# Altium footprint library IM_v1.0.PcbLib: 78 footprints (part 2 of 5)
Each footprint in its own frame and in the unit in brackets; x right, y up, seen from the top. Pads: shape width x height; smd on the part's side, far side on the other; paste and mask are expansions set on the pad; w line width, h text height; cw(c..) or ccw(c..) is an arc to the next point about the centre after c.
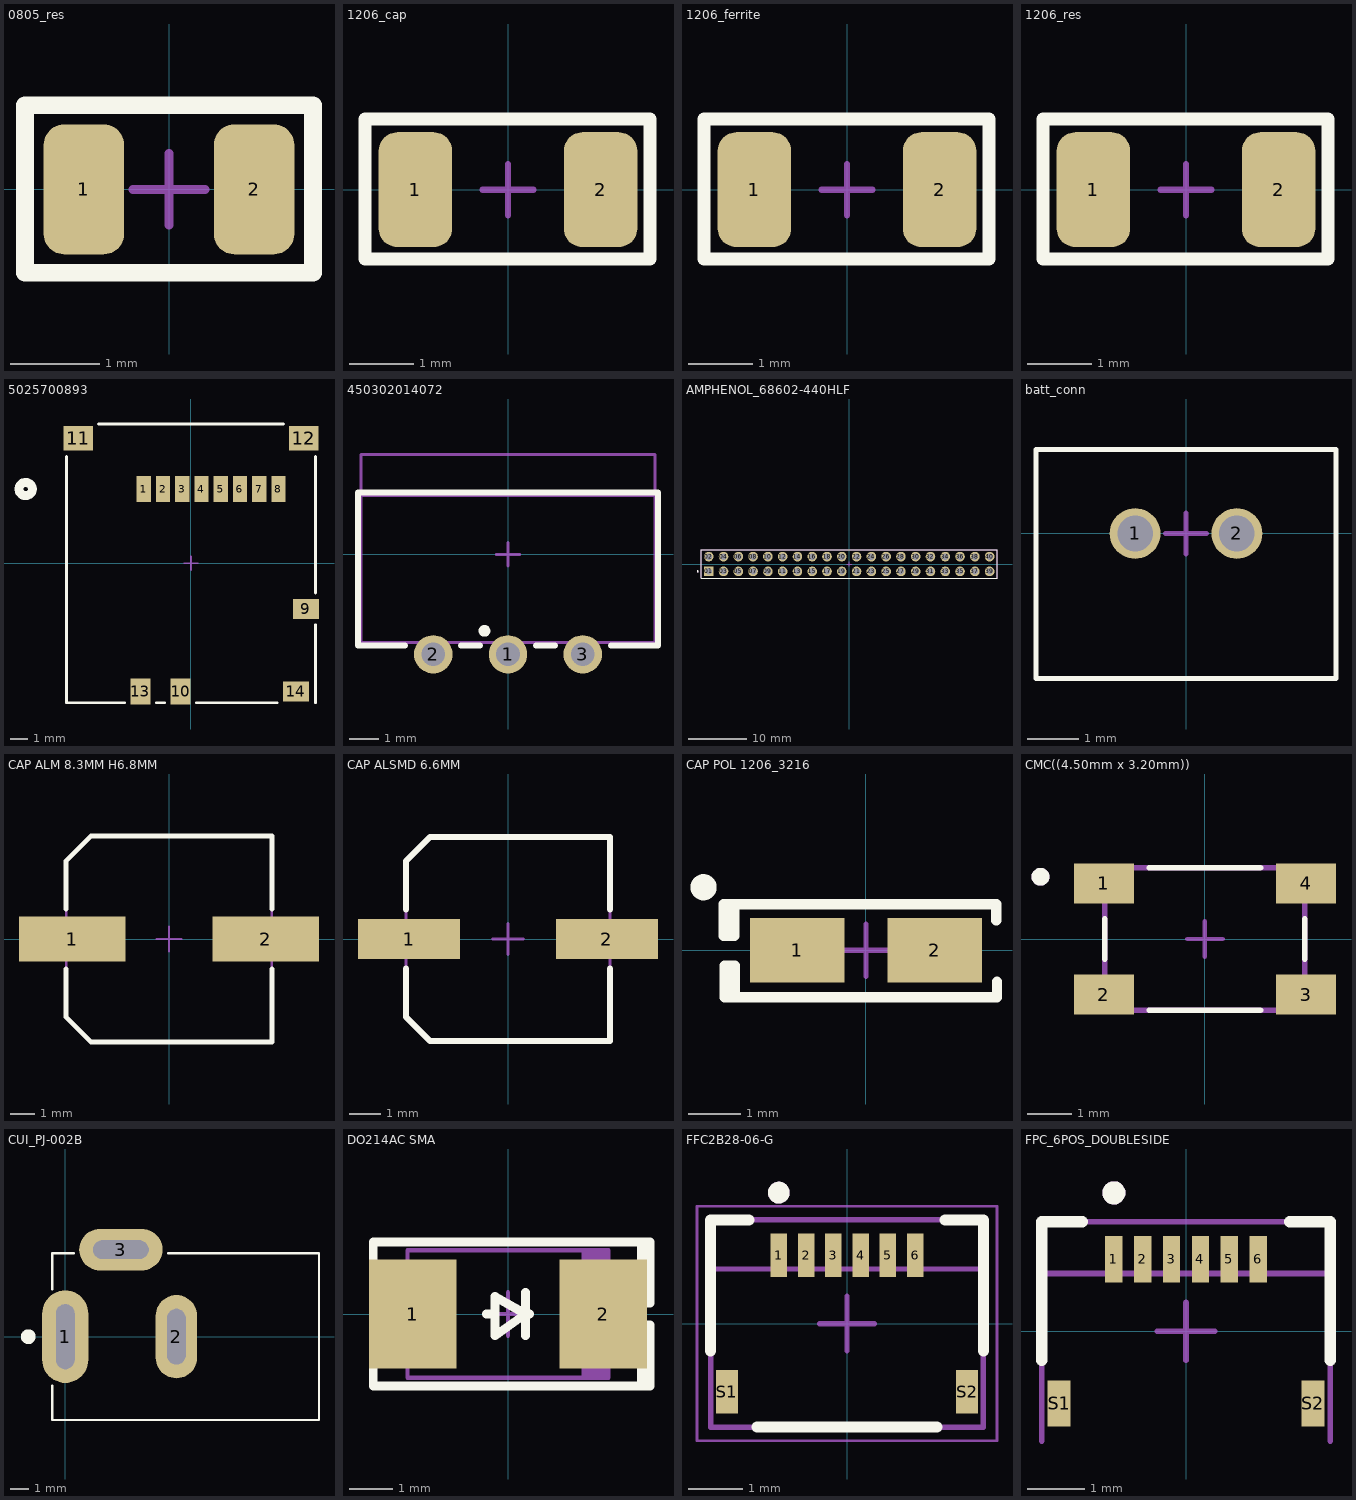
[diagram p1: the footprints below, top view; thin cyan lines are the x and y axes]

## 0805_res [mm]
pads (2):
  rrect50% 0.9x1.45 smd: 1(-0.95,0) 2(0.95,0)
Top Overlay:
  lines w0.2: -1.607,-0.932 -1.607,0.94 1.608,0.94 1.608,-0.932 -1.607,-0.932
Mechanical 7:
  lines w0.1: -0.4,0 0,0 ; 0,-0.4 0,0 ; 0.4,0 0,0 ; 0,0 0,0.4 0,0
3D body "RES 0805.STEP": height 0.6, standoff 0, extent -1,-0.625 1,0.625

## 1206_cap [mm]
pads (2):
  rrect50% 1.15x1.8 smd: 1(-1.45,0) 2(1.45,0)
Top Overlay:
  lines w0.2: -2.24,-1.084 -2.24,1.105 2.225,1.105 2.225,-1.084 -2.24,-1.084
Mechanical 7:
  lines w0.1: -0.4,0 0,0 ; 0,-0.4 0,0 ; 0.4,0 0,0 ; 0,0 0,0.4 0,0
3D body "CAP 1206.STEP": height 1.62, standoff 0, extent -1.6,-0.812 1.6,0.812

## 1206_ferrite [mm]
pads (2):
  rrect50% 1.15x1.8 smd: 1(-1.45,0) 2(1.45,0)
Top Overlay:
  lines w0.2: -2.24,-1.084 2.225,-1.084 2.225,1.105 -2.24,1.105 -2.24,-1.084
Mechanical 7:
  lines w0.1: -0.4,0 0,0 ; 0,-0.4 0,0 ; 0.4,0 0,0 ; 0,0 0,0.4 0,0
3D body "FER 1206.step": height 1.3, standoff 0, extent -1.65,-0.85 1.65,0.85

## 1206_res [mm]
pads (2):
  rrect50% 1.15x1.8 smd: 1(-1.45,0) 2(1.45,0)
Top Overlay:
  lines w0.2: -2.24,-1.084 2.225,-1.084 2.225,1.105 -2.24,1.105 -2.24,-1.084
Mechanical 7:
  lines w0.1: -0.4,0 0,0 ; 0,-0.4 0,0 ; 0.4,0 0,0 ; 0,0 0,0.4 0,0
3D body "RES 1206.STEP": height 0.6, standoff 0, extent -1.6,-0.8 1.6,0.8

## 5025700893 [mil]
pads (14):
  rect 32x59 smd paste+0 mask+0: 1(-106.3,167.27) 2(-62.99,167.27) 3(-19.68,167.27) 4(23.62,167.27) 5(66.93,167.27) 6(110.24,167.27) 7(153.54,167.27) 8(196.85,167.27)
  rect 59x45 smd paste+0 mask+0: 9(258.86,-102.42) 14(236.22,-288.44)
  rect 45x59 smd paste+0 mask+0: 10(-23.62,-288.44) 13(-114.17,-288.44)
  rect 67x55 smd paste+0 mask+0: 11(-253.94,281.44) 12(253.94,281.44)
Top Overlay:
  circle w20: c-372.44,167.27 r15
  lines w6: -280.5,240.84 -280.5,-314 -149.77,-314 ; -208.35,314 208.35,314 ; -78.57,-314 -59.22,-314 ; 11.98,-314 193.98,-314 ; 280.5,-314 280.5,-138.02 ; 280.5,-66.82 280.5,240.84
Bottom Overlay:
  circle w20: c-372.44,167.27 r15
Mechanical 7:
  lines w3.94: -15.75,0 0,0 ; 0,-15.75 0,0 ; 0,15.75 0,0 ; 15.75,0 0,0
3D body "5025700893.stp": height 74.8, standoff 3.94, extent -271.65,-305.12 271.65,305.12

## 450302014072 [mm]
pads (3):
  round 1.308 hole 0.8: 1(0,-3.4) 2(-2.54,-3.4) 3(2.54,-3.4)
Top Overlay:
  circle w0.2: c-0.8,-2.6 r0.1
  lines w0.2: -3.5,-3.1 -5.1,-3.1 -5.1,2.1 5.1,2.1 5.1,-3.1 3.5,-3.1 ; -1.6,-3.1 -0.95,-3.1 ; 0.95,-3.1 1.6,-3.1
Mechanical 13:
  lines w0.1: -5,2 5,2 ; -5,2 -5,3.4 5,3.4 5,2 ; -5,2 -5,-3 5,-3 5,2
  text "PCB Edge" at -1.4,1.3 h0.41
  text "Switch Edge" at -1.5,2.8 h0.41
Mechanical 7:
  lines w0.1: -0.4,0 0,0 ; 0,-0.4 0,0 ; 0,0.4 0,0 ; 0.4,0 0,0
3D body "450302014072+%28rev1%29.stp": height 2.5, standoff -3.7, extent -5,-3.748 5,3.352

## AMPHENOL_68602-440HLF [mm]
pads (40):
  rect 1.65x1.65 / inner round 1.65 / far side rect 1.65x1.65 hole 1.1: 01(-24.13,-1.27)
  round 1.65 hole 1.1: 02(-24.13,1.27) 03(-21.59,-1.27) 04(-21.59,1.27) 05(-19.05,-1.27) 06(-19.05,1.27) 07(-16.51,-1.27) 08(-16.51,1.27) 09(-13.97,-1.27) 10(-13.97,1.27) 11(-11.43,-1.27) 12(-11.43,1.27) 13(-8.89,-1.27) 14(-8.89,1.27) 15(-6.35,-1.27) 16(-6.35,1.27) 17(-3.81,-1.27) 18(-3.81,1.27) 19(-1.27,-1.27) 20(-1.27,1.27) 21(1.27,-1.27) 22(1.27,1.27) 23(3.81,-1.27) 24(3.81,1.27) 25(6.35,-1.27) 26(6.35,1.27) 27(8.89,-1.27) 28(8.89,1.27) 29(11.43,-1.27) 30(11.43,1.27) 31(13.97,-1.27) 32(13.97,1.27) 33(16.51,-1.27) 34(16.51,1.27) 35(19.05,-1.27) 36(19.05,1.27) 37(21.59,-1.27) 38(21.59,1.27) 39(24.13,-1.27) 40(24.13,1.27)
Top Overlay:
  circle w0.2: c-26.05,-1.27 r0.1
  lines w0.127: -25.4,-2.415 -25.4,2.415 25.4,2.415 25.4,-2.415 -25.4,-2.415
Route Tool Path (Mech13):
  circle w0.2: c-26.05,-1.27 r0.1
  lines w0.127: -25.4,-2.415 -25.4,2.415 ; -25.4,-2.415 25.4,-2.415 ; -25.4,-2.415 -25.4,2.415 ; -25.4,2.415 25.4,2.415 ; 25.4,-2.415 25.4,2.415 ; 25.4,-2.415 25.4,2.415
Mechanical 7:
  lines w0.1: -0.4,0 0,0 ; 0,-0.4 0,0 ; 0,0.4 0,0 ; 0.4,0 0,0
3D body "68602-440HLF.STEP": height 8.38, standoff -3.81, extent -25.4,-2.415 25.4,2.415

## batt_conn [mm]
pads (2):
  round 1 hole 0.7: 1(-1,0) 2(1,0)
Top Overlay:
  lines w0.1: -2.95,-2.85 -2.95,1.65 2.95,1.65 2.95,-2.85 -2.95,-2.85
Mechanical 7:
  lines w0.1: -0.4,0 0,0 ; 0,-0.4 0,0 ; 0,0.4 0,0 ; 0.4,0 0,0
3D body "B2B-PH-K-S.STEP": height 6, standoff -3.4, extent -2.95,-2.85 2.95,1.65

## CAP ALM 8.3MM H6.8MM [mm]
height 0.9
pads (2):
  rect 4.3x1.8 smd: 1(-3.9,0) 2(3.9,0)
Top Overlay:
  lines w0.2: -4.15,-1.2 -4.15,-3.15 -3.15,-4.15 4.15,-4.15 4.15,-1.2 ; -4.15,1.2 -4.15,3.15 -3.15,4.15 4.15,4.15 4.15,1.2
Route Tool Path (Mech13):
  lines w0.1: -4.15,-3.15 -3.15,-4.15 4.15,-4.15 4.15,4.15 -3.15,4.15 -4.15,3.15 -4.15,-3.15
Mechanical 7:
  lines w0.1: -0.5,0 0.5,0 ; 0,-0.5 0,0.5
3D body ".STEP": height 6.8, standoff 0, extent -5,-4.15 5,4.15

## CAP ALSMD 6.6MM [mm] "Aluminum SMD Electrolytic Capacitor, 6.60mm Land Size, 6.30mm Diameter, 5.65mm Height, 8.00mm Maximum Leads Span"
height 0.65
pads (2):
  rect 3.3x1.3 smd: 1(-3.2,0) 2(3.2,0)
Top Overlay:
  lines w0.2: -3.3,-0.95 -3.3,-2.512 -2.512,-3.3 3.3,-3.3 3.3,-0.95 ; -3.3,0.95 -3.3,2.512 -2.512,3.3 3.3,3.3 3.3,0.95
Mechanical 13:
  lines w0.1: -3.3,-2.512 -3.3,2.512 -2.512,3.3 3.3,3.3 3.3,-3.3 -2.512,-3.3 -3.3,-2.512
Mechanical 7:
  lines w0.1: -0.5,0 0.5,0 ; 0,-0.5 0,0.5
3D body ".STEP": height 5.65, standoff 0, extent -4,-3.3 4,3.3

## CAP POL 1206_3216 [mm] "Molded Capacitor, 2-Leads, Body 3.20x1.6mm, IPC Medium Density"
height 1.7
pads (2):
  rect 1.8x1.23 smd: 1(-1.31,0) 2(1.31,0)
Top Overlay:
  circle w0.25: c-3.1,1.2 r0.125
  rectangle: -2.717,0.273 -2.567,0.873
  rectangle: -2.7,-0.9 -2.55,-0.3
  lines w0.2: -2.517,0.873 -2.517,0.273 -2.717,0.273 -2.717,0.873 2.483,0.873 2.483,0.573 ; -2.5,-0.9 -2.5,-0.3 -2.7,-0.3 -2.7,-0.9 2.5,-0.9 2.5,-0.6
Mechanical 7:
  lines w0.1: -0.5,0 0.5,0 ; 0,-0.5 0,0.5
3D body "CAP TANT - 1206 - 1.7MM.step": height 1.7, standoff 0, extent -1.715,-0.85 1.715,0.85

## CMC((4.50mm x 3.20mm)) [mm]
pads (4):
  rect 1.35x0.9 smd: 1(-2.275,1.25) 2(-2.275,-1.25) 3(2.275,-1.25) 4(2.275,1.25)
Top Overlay:
  circle w0.2: c-3.7,1.4 r0.1
  lines w0.127: -2.25,-0.45 -2.25,0.45 ; -1.25,-1.6 1.25,-1.6 ; -1.25,1.6 1.25,1.6 ; 2.25,-0.45 2.25,0.45
Mechanical 13:
  lines w0.127: -2.25,-1.6 -2.25,1.6 2.25,1.6 2.25,-1.6 -2.25,-1.6
Route Tool Path (Mech13):
  circle w0.2: c-3.7,1.4 r0.1
Mechanical 7:
  lines w0.1: -0.4,0 0,0 ; 0,-0.4 0,0 ; 0,0.4 0,0 ; 0.4,0 0,0
3D body "ACT45B-101-2P-TL003.STEP": height 3, standoff 0, extent -2.25,-1.6 2.25,1.6

## CUI_PJ-002B [mm]
pads (3):
  oval 2.5x5 hole 1 slot 3.5 at 90 deg: 1(0,0)
  oval 2.25x4.5 hole 1 slot 3 at 90 deg: 2(6,0)
  oval 4.5x2.25 hole 1 slot 3 at 0 deg: 3(3,4.7)
Top Overlay:
  circle w0.4: c-2,0 r0.2
  lines w0.127: -0.7,-2.65 -0.7,-4.5 13.7,-4.5 13.7,4.5 5.55,4.5 ; -0.7,2.55 -0.7,4.5 0.45,4.5
Mechanical 7:
  lines w0.1: -0.5,0 0.5,0 ; 0,-0.5 0,0.5
3D body "step_temp.STEP": height 11, standoff -3.49, extent -0.9,-4.7 13.5,4.7

## DO214AC SMA [mm] "Molded Diode, 2-Leads, Body 4.30x2.60mm, IPC Medium Density"
height 2.4
pads (2):
  rect 2x2.5 smd: 1(-2.185,0) 2(2.185,0)
Top Overlay:
  lines w0.2: -3.083,-1.175 -3.083,-1.651 3.25,-1.651 3.25,-0.254 3.056,-0.254 3.056,-1.651 ; -3.083,1.175 -3.083,1.651 3.25,1.651 3.25,0.254 3.056,0.254 3.056,1.651 ; -0.5,0 -0.3,0 ; 0.4,-0.5 0.4,0.5 ; 0.5,0 0.4,0 ; 0.4,0 -0.3,0.4 -0.3,-0.5 0.4,0
Mechanical 13:
  rectangle: 1.681,-1.46 2.3,1.46
  lines w0.1: -2.3,-1.46 2.3,-1.46 2.3,1.46 -2.3,1.46 -2.3,-1.46
Mechanical 7:
  lines w0.1: -0.5,0 0.5,0 ; 0,-0.5 0,0.5
3D body "SMA.STEP": height 2.4, standoff 0, extent -2.6,-1.375 2.6,1.375

## FFC2B28-06-G [mm]
pads (8):
  rect 0.3x0.8 smd: 1(-1.25,1.25) 2(-0.75,1.25) 3(-0.25,1.25) 4(0.25,1.25) 5(0.75,1.25) 6(1.25,1.25)
  rect 0.4x0.8 smd: S1(-2.2,-1.25) S2(2.2,-1.25)
Top Overlay:
  circle w0.2: c-1.25,2.4 r0.1
  lines w0.2: -2.5,-0.5 -2.5,1.9 -1.8,1.9 ; -1.65,-1.9 1.65,-1.9 ; 1.8,1.9 2.5,1.9 2.5,-0.5
Mechanical 13:
  lines w0.1: -2.5,1 2.5,1 ; -2.5,1 -2.5,-1.9 2.5,-1.9 2.5,1 ; -2.5,1 -2.5,1.9 2.5,1.9 2.5,1
Route Tool Path (Mech13):
  circle w0.2: c-1.25,2.4 r0.1
Mechanical 7:
  lines w0.05: -2.75,-2.15 2.75,-2.15 2.75,2.15 -2.75,2.15 -2.75,-2.15
  lines w0.1: -0.5,0 0.5,0 ; 0,-0.5 0,0.5
3D body "step_temp.STEP": height 1.1, standoff 0, extent -2.5,-1.9 2.5,1.9

## FPC_6POS_DOUBLESIDE [mm]
pads (8):
  rect 0.3x0.8 smd: 1(-1.25,1.25) 2(-0.75,1.25) 3(-0.25,1.25) 4(0.25,1.25) 5(0.75,1.25) 6(1.25,1.25)
  rect 0.4x0.8 smd: S1(-2.2,-1.25) S2(2.2,-1.25)
Top Overlay:
  circle w0.2: c-1.25,2.4 r0.1
  lines w0.2: -2.5,-0.5 -2.5,1.9 -1.8,1.9 ; 1.8,1.9 2.5,1.9 2.5,-0.5
Mechanical 13:
  lines w0.1: -2.5,-1.9 -2.5,1 ; 2.5,-1.9 2.5,1 ; -2.5,1 2.5,1 ; -2.5,1 -2.5,1.9 2.5,1.9 2.5,1
Route Tool Path (Mech13):
  circle w0.2: c-1.25,2.4 r0.1
Mechanical 7:
  lines w0.1: -0.5,0 0.5,0 ; 0,-0.5 0,0.5
3D body "step_temp.STEP": height 1.1, standoff 0, extent -2.5,-1.9 2.5,1.9